# EAGLE library part ARDUINO-PRO-MINI-VERTICAL* (library avr-4)
Atmega328/168 based microcontroller development board
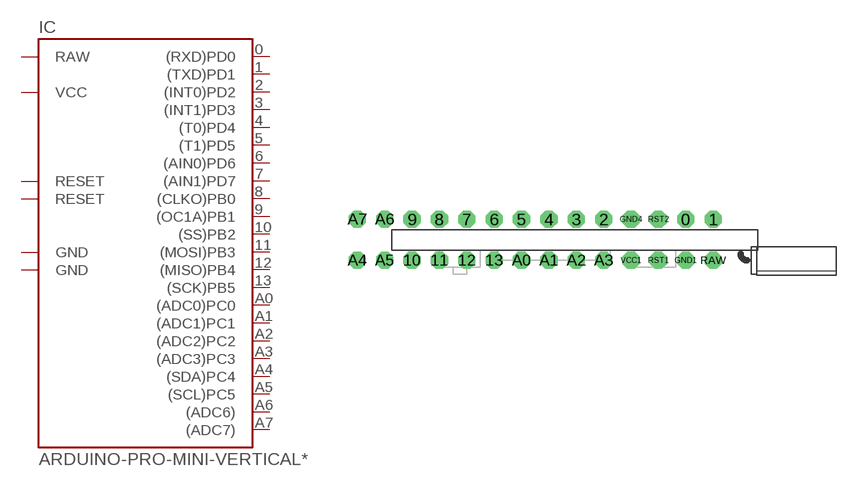
[diagram p58: symbol with the pads of ARDUINO-PRO-MINI-VERTICAL; footprint ARDUINO-PRO-MINI-VERTICAL]

Designator prefix IC

## ARDUINO-PRO-MINI-VERTICAL  [ARDUINO-PRO-MINI-VERTICAL]
0  (RXD)PD0
1  (TXD)PD1
2  (INT0)PD2
3  (INT1)PD3
4  (T0)PD4
5  (T1)PD5
6  (AIN0)PD6
7  (AIN1)PD7
8  (CLKO)PB0
9  (OC1A)PB1
10  (SS)PB2
11  (MOSI)PB3
12  (MISO)PB4
13  (SCK)PB5
A0  (ADC0)PC0
A1  (ADC1)PC1
A2  (ADC2)PC2
A3  (ADC3)PC3
A4  (SDA)PC4
A5  (SCL)PC5
A6  (ADC6)
A7  (ADC7)
GND1  GND  pwr
GND4  GND  pwr
RAW  RAW  pwr
RST1  RESET
RST2  RESET
VCC1  VCC  pwr

## Footprint ARDUINO-PRO-MINI-VERTICAL (pad centres in mm)
Arduino Pro Mini 8M/16M board 3V3/5V
drill 0.9 pad 1.6 octagon: 0 10.16,-3.81; 1 12.7,-3.81; 2 2.54,-3.81; 3 0,-3.81; 4 -2.54,-3.81; 5 -5.08,-3.81; 6 -7.62,-3.81; 7 -10.16,-3.81; 8 -12.7,-3.81; 9 -15.24,-3.81; 10 -15.24,-7.62; 11 -12.7,-7.62; 12 -10.16,-7.62; 13 -7.62,-7.62; A0 -5.08,-7.62; A1 -2.54,-7.62; A2 0,-7.62; A3 2.54,-7.62; A4 -20.32,-7.62; A5 -17.78,-7.62; A6 -17.78,-3.81; A7 -20.32,-3.81; GND1 10.16,-7.62; GND4 5.08,-3.81; RAW 12.7,-7.62; RST1 7.62,-7.62; RST2 7.62,-3.81; VCC1 5.08,-7.62